# EAGLE library part TEL6 (library custom-2002)
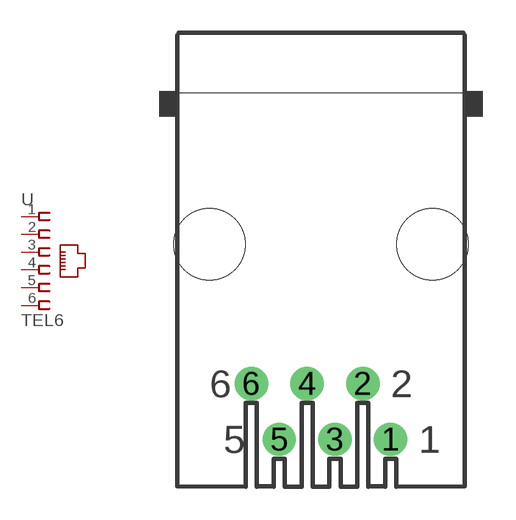
[diagram p11: symbol with the pads of RJ11A; footprint RJ11A]

Designator prefix -

## TEL6  [RJ11A]
1  1  pas
2  2  pas
3  3  pas
4  4  pas
5  5  pas
6  6  pas

## Footprint RJ11A (pad centres in mm)
drill 1.016 round: 1 0,0; 2 -1.27,2.54; 3 -2.54,0; 4 -3.81,2.54; 5 -5.08,0; 6 -6.35,2.54
hole 3.251 at 1.905,8.89
hole 3.251 at -8.255,8.89